# EAGLE library part MSP430FR5739IDA (library TI-MSP430FR5739)
Mixed Signal Microcontroller,TSSOP-38
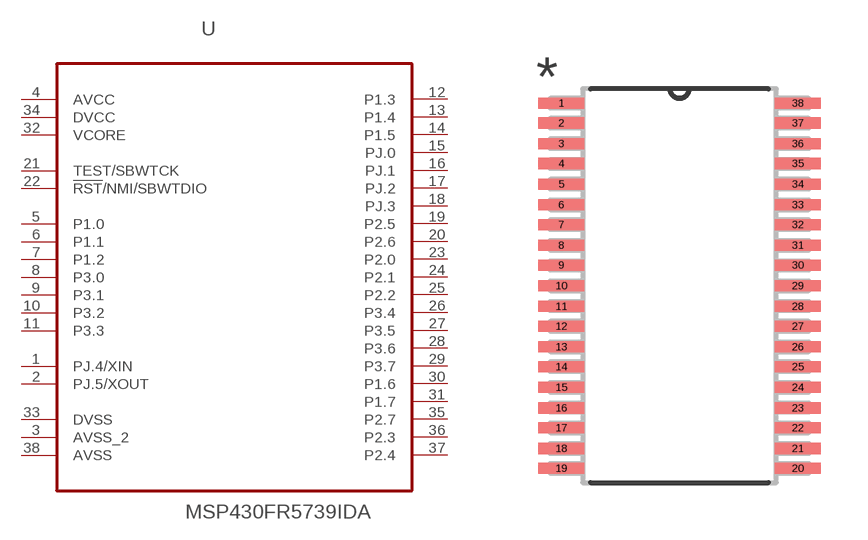
[diagram p0: symbol with the pads of SOP65P810X120-38N; footprint SOP65P810X120-38N]

Designator prefix U

## MSP430FR5739IDA (MPN: MSP430FR5739IDA; OC_FARNELL: 2148662; OC_NEWARK: 28W4632; PACKAGE: TSSOP-38; SUPPLIER: TEXAS INSTRUMENTS)  [SOP65P810X120-38N]
1  PJ.4/XIN
2  PJ.5/XOUT
3  AVSS_2  pas
4  AVCC  pwr
5  P1.0
6  P1.1
7  P1.2
8  P3.0
9  P3.1
10  P3.2
11  P3.3
12  P1.3
13  P1.4
14  P1.5
15  PJ.0
16  PJ.1
17  PJ.2
18  PJ.3
19  P2.5
20  P2.6
21  TEST/SBWTCK  in
22  !RST!/NMI/SBWTDIO  in
23  P2.0
24  P2.1
25  P2.2
26  P3.4
27  P3.5
28  P3.6
29  P3.7
30  P1.6
31  P1.7
32  VCORE  pwr
33  DVSS  pas
34  DVCC  pwr
35  P2.7
36  P2.3
37  P2.4
38  AVSS  pas

## Footprint SOP65P810X120-38N (pad centres in mm)
smd 1.473 x 0.356: 1 -3.785,5.842; 2 -3.785,5.207; 3 -3.785,4.547; 4 -3.785,3.912; 5 -3.785,3.251; 6 -3.785,2.591; 7 -3.785,1.956; 8 -3.785,1.295; 9 -3.785,0.66; 10 -3.785,0; 11 -3.785,-0.66; 12 -3.785,-1.295; 13 -3.785,-1.956; 14 -3.785,-2.591; 15 -3.785,-3.251; 16 -3.785,-3.912; 17 -3.785,-4.547; 18 -3.785,-5.207; 19 -3.785,-5.842; 20 3.785,-5.842; 21 3.785,-5.207; 22 3.785,-4.547; 23 3.785,-3.912; 24 3.785,-3.251; 25 3.785,-2.591; 26 3.785,-1.956; 27 3.785,-1.295; 28 3.785,-0.66; 29 3.785,0; 30 3.785,0.66; 31 3.785,1.295; 32 3.785,1.956; 33 3.785,2.591; 34 3.785,3.251; 35 3.785,3.912; 36 3.785,4.547; 37 3.785,5.207; 38 3.785,5.842